# Altium schematic symbol library Power.SchLib: 4 symbols
Pins are listed as number, name and electrical type; pins without a type are passive.

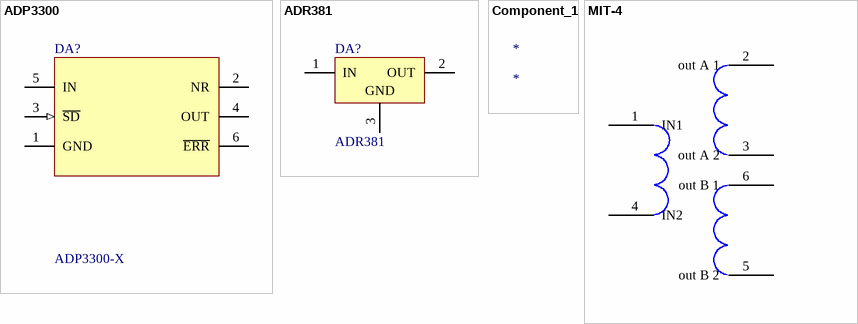
[diagram p0: symbols ADP3300 to MIT-4]

## ADP3300
designator DA?, comment ADP3300-X
High Accuracy anyCAP 50 mA Low Dropout Linear Regulator; Published: 8-Jun-2000; LatestRevisionDate: 04-Mar-2005; LatestRevisionNote: Stylized 3D Model Added.; DatasheetVersion: REV.B 1998; PackageVersion: revB, 1996; PackageReference: D-16_B; Publisher: Altium Limited; ComponentLink1Description: Manufacturer Link; ComponentLink1URL: http://www.analog.com/adp3300; ComponentLink2Description: Datasheet; ComponentLink2URL: http://www.analog.com/adp3300
footprint SOT23127P600-8N (SOT23-6)
pins: 1 GND (power), 2 NR, 3 ~{SD} (in), 4 OUT (power), 5 IN (power), 6 ~{ERR} (oc)

## ADR381
designator DA?
Precision Low-Drift 2.500 V SOT-23 Voltage Reference; Published: 8-Jun-2000; LatestRevisionDate: 29-May-2009; LatestRevisionNote: IPC-7351 Footprint Added.; DatasheetVersion: REV. 0 1997; PackageVersion: rev0; PackageReference: RT-3_N; Publisher: Altium Limited; PackageDescription: 3-Pin SOT-23 Package 0.95 mm Pitch, 2.4 mm Lead Span; ComponentLink1Description: Manufacturer Link; ComponentLink1URL: http://www.analog.com/adr381; ComponentLink2Description: Datasheet; ComponentLink2URL: http://www.analog.com/adr381
footprint RT-3_N (SOT23, 3-Leads, Body 2.9x1.3mm, Pitch 0.95mm, Lead Span 2.4mm, IPC Medium Density)
footprint RT-3_L (SOT23, 3-Leads, Body 2.9x1.3mm, Pitch 0.95mm, Lead Span 2.4mm, IPC High Density)
footprint RT-3_M (SOT23, 3-Leads, Body 2.9x1.3mm, Pitch 0.95mm, Lead Span 2.4mm, IPC Low Density)
pins: 1 IN (power), 2 OUT (power), 3 GND (power)

## Component_1
designator *

## MIT-4
designator P?, comment Header 10X2
Header, 10-Pin, Dual row; LatestRevisionDate: 17-Jul-2002; LatestRevisionNote: Re-released for DXP Platform.; Publisher: Altium Limited
footprint HDR2X10 (Connector; Header; 10x2 Position)
signal-integrity model Connector
pins: 1 IN1, 2 out A 1, 3 out A 2, 4 IN2, 5 out B 2, 6 out B 1